# Altium schematic symbol library 03_Functional_IC.SchLib: 12 symbols
Pins are listed as number, name and electrical type; pins without a type are passive.

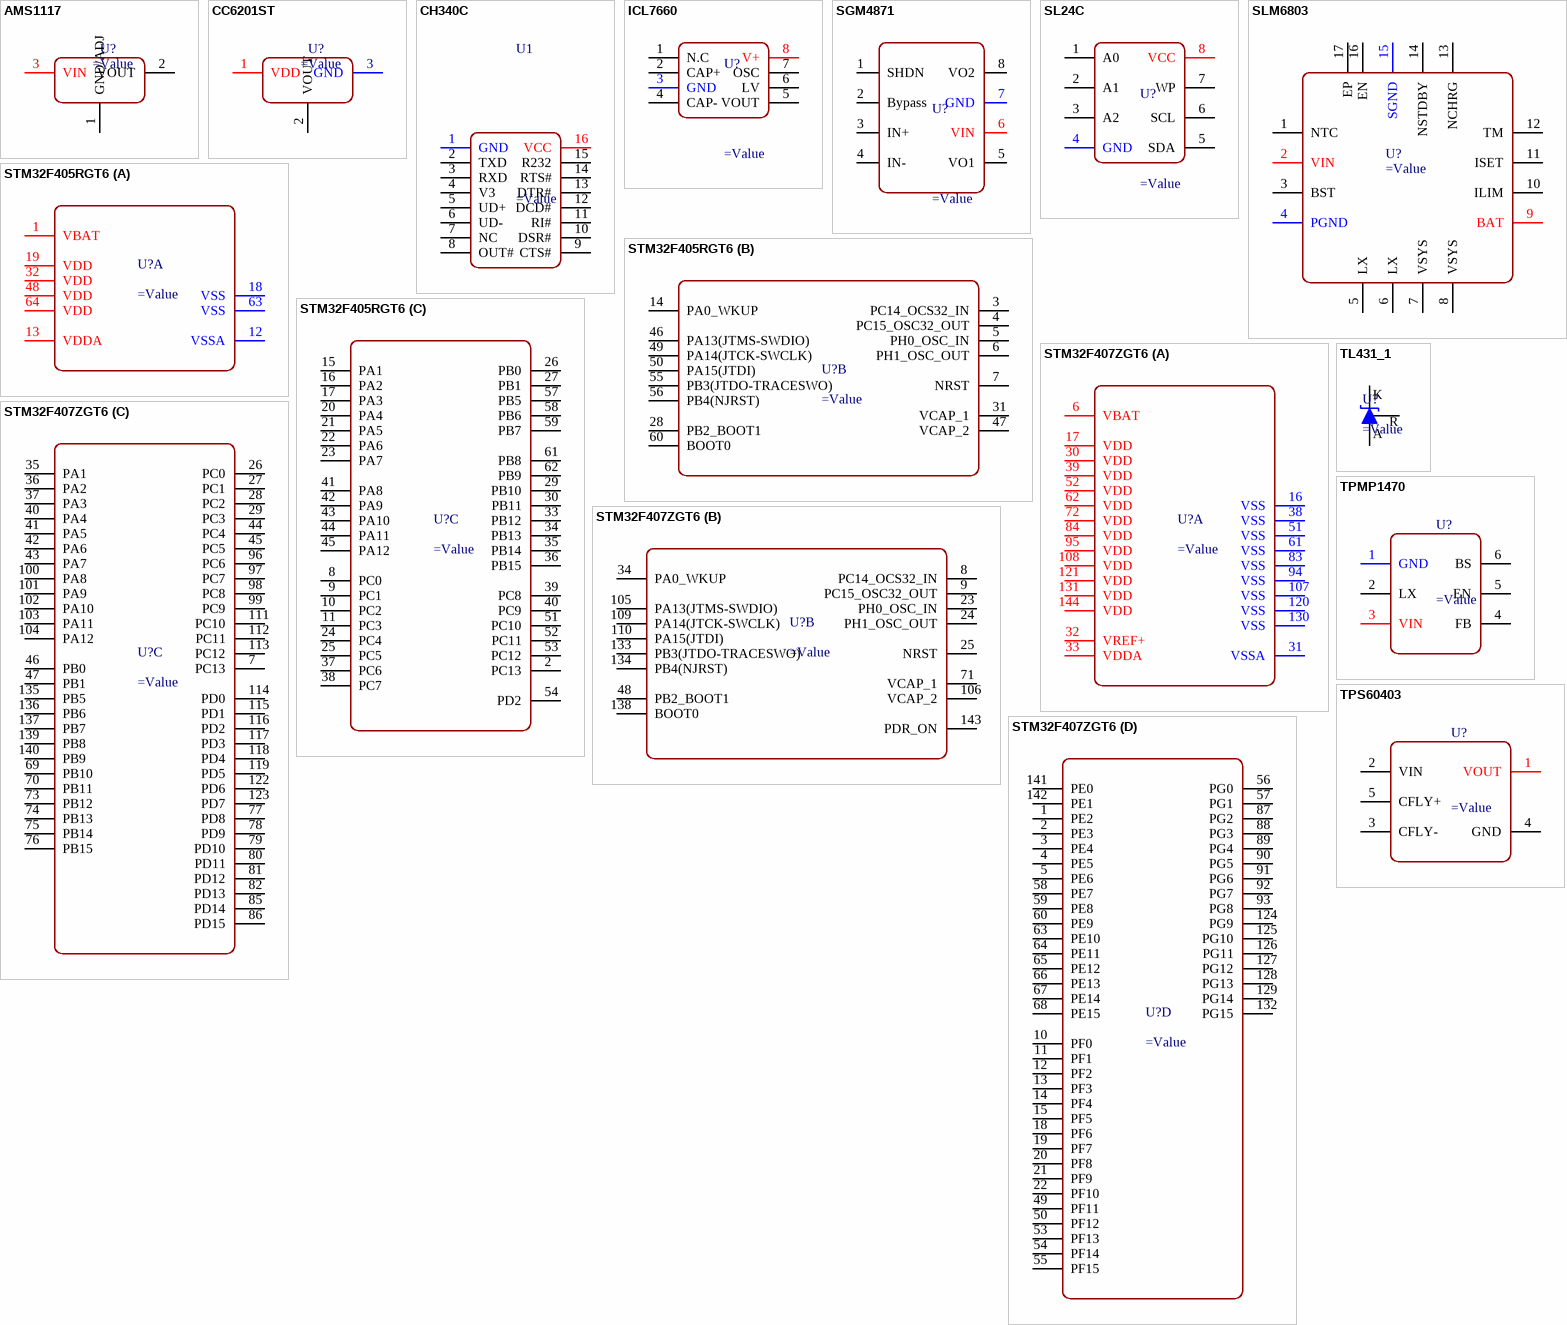
[diagram p0: symbols AMS1117 to TPS60403]

## AMS1117
designator U?
线性稳压器-LDO
pins: 1 GND/ADJ, 2 VOUT, 3 VIN

## CC6201ST
designator U?
霍尔开关
pins: 1 VDD, 2 VOUT, 3 GND

## CH340C
designator U1
USB转串口芯片
pins: 1 GND, 2 TXD, 3 RXD, 4 V3, 5 UD+, 6 UD-, 7 NC, 8 OUT#, 9 CTS#, 10 DSR#, 11 RI#, 12 DCD#, 13 DTR#, 14 RTS#, 15 R232, 16 VCC

## ICL7660
designator U?
电压极性反转变化器
pins: 1 N.C, 2 CAP+, 3 GND, 4 CAP-, 5 VOUT, 6 LV, 7 OSC, 8 V+

## SGM4871
designator U?
音频功率放大芯片
pins: 1 SHDN, 2 Bypass, 3 IN+, 4 IN-, 5 VO1, 6 VIN, 7 GND, 8 VO2

## SL24C
designator U?
存储IC-EEPROM
pins: 1 A0, 2 A1, 3 A2, 4 GND (power), 5 SDA, 6 SCL, 7 WP, 8 VCC (power)
2 alternate drawings of the same symbol

## SLM6803
designator U?
锂电池充电管理芯片
pins: 1 NTC, 2 VIN, 3 BST, 4 PGND, 5 LX, 6 LX, 7 VSYS, 8 VSYS, 9 BAT, 10 ILIM, 11 ISET, 12 TM, 13 NCHRG, 14 NSTDBY, 15 SGND, 16 EN, 17 EP

## STM32F405RGT6
designator U?
SMT32系列MCU-STM32F405RGT6
part A pins: 1 VBAT, 12 VSSA, 13 VDDA, 18 VSS, 19 VDD, 32 VDD, 48 VDD, 63 VSS, 64 VDD
part B pins: 3 PC14_OCS32_IN, 4 PC15_OSC32_OUT, 5 PH0_OSC_IN, 6 PH1_OSC_OUT, 7 NRST, 14 PA0_WKUP, 28 PB2_BOOT1, 31 VCAP_1, 46 PA13(JTMS-SWDIO), 47 VCAP_2, 49 PA14(JTCK-SWCLK), 50 PA15(JTDI), 55 PB3(JTDO-TRACESWO), 56 PB4(NJRST), 60 BOOT0
part C pins: 2 PC13, 8 PC0, 9 PC1, 10 PC2, 11 PC3, 15 PA1, 16 PA2, 17 PA3, 20 PA4, 21 PA5, 22 PA6, 23 PA7, 24 PC4, 25 PC5, 26 PB0, 27 PB1, 29 PB10, 30 PB11, 33 PB12, 34 PB13, 35 PB14, 36 PB15, 37 PC6, 38 PC7, 39 PC8, 40 PC9, 41 PA8, 42 PA9, 43 PA10, 44 PA11, 45 PA12, 51 PC10, 52 PC11, 53 PC12, 54 PD2, 57 PB5, 58 PB6, 59 PB7, 61 PB8, 62 PB9

## STM32F407ZGT6
designator U?
SMT32系列MCU-STM32F407ZGT6
part A pins: 6 VBAT, 16 VSS, 17 VDD, 30 VDD, 31 VSSA, 32 VREF+, 33 VDDA, 38 VSS, 39 VDD, 51 VSS, 52 VDD, 61 VSS, 62 VDD, 72 VDD, 83 VSS, 84 VDD, 94 VSS, 95 VDD, 107 VSS, 108 VDD, 120 VSS, 121 VDD, 130 VSS, 131 VDD, 144 VDD
part B pins: 8 PC14_OCS32_IN, 9 PC15_OSC32_OUT, 23 PH0_OSC_IN, 24 PH1_OSC_OUT, 25 NRST, 34 PA0_WKUP, 48 PB2_BOOT1, 71 VCAP_1, 105 PA13(JTMS-SWDIO), 106 VCAP_2, 109 PA14(JTCK-SWCLK), 110 PA15(JTDI), 133 PB3(JTDO-TRACESWO), 134 PB4(NJRST), 138 BOOT0, 143 PDR_ON
part C pins: 7 PC13, 26 PC0, 27 PC1, 28 PC2, 29 PC3, 35 PA1, 36 PA2, 37 PA3, 40 PA4, 41 PA5, 42 PA6, 43 PA7, 44 PC4, 45 PC5, 46 PB0, 47 PB1, 69 PB10, 70 PB11, 73 PB12, 74 PB13, 75 PB14, 76 PB15, 77 PD8, 78 PD9, 79 PD10, 80 PD11, 81 PD12, 82 PD13, 85 PD14, 86 PD15, 96 PC6, 97 PC7, 98 PC8, 99 PC9, 100 PA8, 101 PA9, 102 PA10, 103 PA11, 104 PA12, 111 PC10, 112 PC11, 113 PC12, 114 PD0, 115 PD1, 116 PD2, 117 PD3, 118 PD4, 119 PD5, 122 PD6, 123 PD7, 135 PB5, 136 PB6, 137 PB7, 139 PB8, 140 PB9
part D pins: 1 PE2, 2 PE3, 3 PE4, 4 PE5, 5 PE6, 10 PF0, 11 PF1, 12 PF2, 13 PF3, 14 PF4, 15 PF5, 18 PF6, 19 PF7, 20 PF8, 21 PF9, 22 PF10, 49 PF11, 50 PF12, 53 PF13, 54 PF14, 55 PF15, 56 PG0, 57 PG1, 58 PE7, 59 PE8, 60 PE9, 63 PE10, 64 PE11, 65 PE12, 66 PE13, 67 PE14, 68 PE15, 87 PG2, 88 PG3, 89 PG4, 90 PG5, 91 PG6, 92 PG7, 93 PG8, 124 PG9, 125 PG10, 126 PG11, 127 PG12, 128 PG13, 129 PG14, 132 PG15, 141 PE0, 142 PE1

## TL431_1
designator U?
可调基准稳压芯片-1K2R3A
pins: 1 K, 2 R, 3 A

## TPMP1470
designator U?
DC-DC电源芯片-BUCK
pins: 1 GND, 2 LX, 3 VIN, 4 FB, 5 EN, 6 BS

## TPS60403
designator U?
电荷泵-电压逆变器
pins: 1 VOUT, 2 VIN, 3 CFLY-, 4 GND, 5 CFLY+